# EAGLE library part NHD-2.4-240320SF-CTXI (library BoneCapeParts)
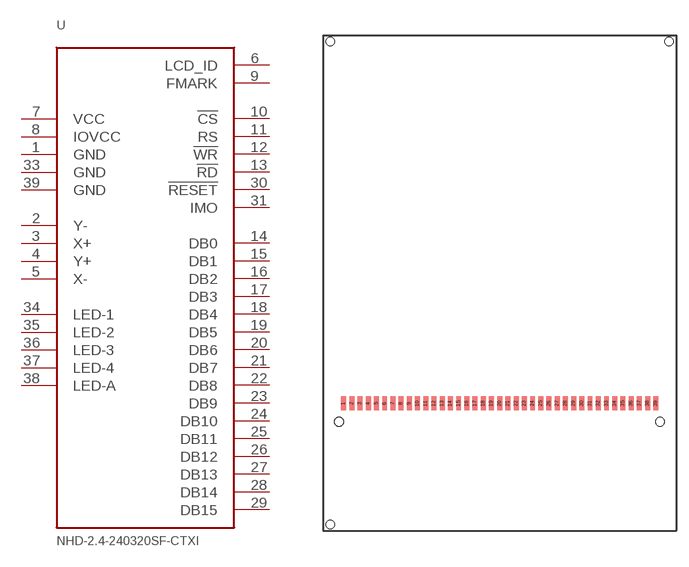
[diagram p12: symbol with the pads of NHD-2.4-240320SF-CTXI; footprint NHD-2.4-240320SF-CTXI]

Designator prefix -

## NHD-2.4-240320SF-CTXI  [NHD-2.4-240320SF-CTXI]
1  GND  sup
2  Y-  pas
3  X+  pas
4  Y+  pas
5  X-  pas
6  LCD_ID  out
7  VCC  sup
8  IOVCC  sup
9  FMARK  out
10  !CS  in
11  RS  in
12  !WR  in
13  !RD  in
14  DB0
15  DB1
16  DB2
17  DB3
18  DB4
19  DB5
20  DB6
21  DB7
22  DB8
23  DB9
24  DB10
25  DB11
26  DB12
27  DB13
28  DB14
29  DB15
30  !RESET  in
31  IMO  in
33  GND  sup
34  LED-1  pas
35  LED-2  pas
36  LED-3  pas
37  LED-4  pas
38  LED-A  pas
39  GND  sup

## Footprint NHD-2.4-240320SF-CTXI (pad centres in mm)
smd 0.6 x 1.7: 1 -19,14.75; 2 -18,14.75; 3 -17,14.75; 4 -16,14.75; 5 -15,14.75; 6 -14,14.75; 7 -13,14.75; 8 -12,14.75; 9 -11,14.75; 10 -10,14.75; 11 -9,14.75; 12 -8,14.75; 13 -7,14.75; 14 -6,14.75; 15 -5,14.75; 16 -4,14.75; 17 -3,14.75; 18 -2,14.75; 19 -1,14.75; 20 0,14.75; 21 1,14.75; 22 2,14.75; 23 3,14.75; 24 4,14.75; 25 5,14.75; 26 6,14.75; 27 7,14.75; 28 8,14.75; 29 9,14.75; 30 10,14.75; 31 11,14.75; 32 12,14.75; 33 13,14.75; 34 14,14.75; 35 15,14.75; 36 16,14.75; 37 17,14.75; 38 18,14.75; 39 19,14.75
hole 1.05 at 20.61,58.76
hole 1.05 at -20.61,0
hole 1.05 at -20.61,58.76
hole 1.05 at -19.56,12.5
hole 1.05 at 19.5,12.5